# EAGLE library part YMF262 (library 07-Retrocomputing)
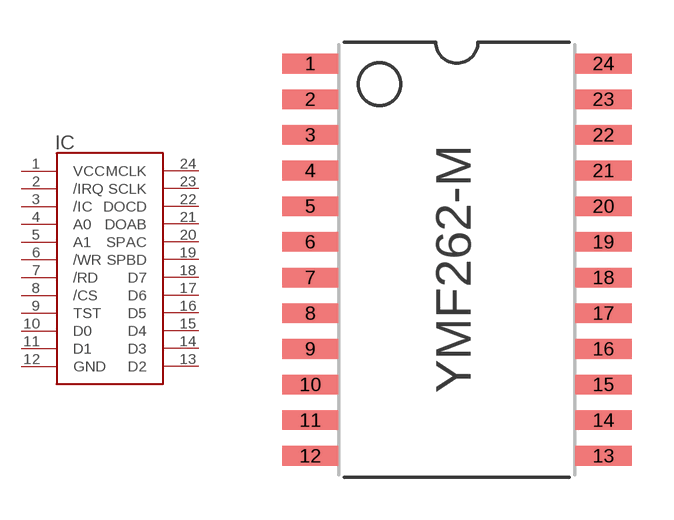
[diagram p16: symbol with the pads of YMF262_SOP24; footprint YMF262_SOP24]

Designator prefix IC

## YMF262  [YMF262_SOP24]
1  VCC
2  /IRQ
3  /IC
4  A0
5  A1
6  /WR
7  /RD
8  /CS
9  TST
10  D0
11  D1
12  GND
13  D2
14  D3
15  D4
16  D5
17  D6
18  D7
19  SPBD
20  SPAC
21  DOAB
22  DOCD
23  SCLK
24  MCLK

## Footprint YMF262_SOP24 (pad centres in mm)
smd 2 x 0.7: 1 -5.215,6.985; 2 -5.215,5.715; 3 -5.215,4.445; 4 -5.215,3.175; 5 -5.215,1.905; 6 -5.215,0.635; 7 -5.215,-0.635; 8 -5.215,-1.905; 9 -5.215,-3.175; 10 -5.215,-4.445; 11 -5.215,-5.715; 12 -5.215,-6.985; 13 5.215,-6.985; 14 5.215,-5.715; 15 5.215,-4.445; 16 5.215,-3.175; 17 5.215,-1.905; 18 5.215,-0.635; 19 5.215,0.635; 20 5.215,1.905; 21 5.215,3.175; 22 5.215,4.445; 23 5.215,5.715; 24 5.215,6.985